# EAGLE library part XBEE2 (library Smartcrutches)
Digi XBee and XBee Pro XBees are tiny blue chips that can communicate wirelessly with each other. They can do simple things, like replacing a couple of wires in serial communication, which is nice when you want to make a remote for your paintball vehicle. SparkFun Products SparkFun XBee Buying Guide <https://www.sparkfun.com/pages/xbee_guide> SparkFun XBee Explorer USB <https://www.sparkfun.com/products/11812> (WRL-11812) Breakout Board for XBee Module <https://www.sparkfun.com/products/8276> (WRL-8276) SparkFun XBee Explorer Regulated <https://www.sparkfun.com/products/11373> (WRL-11373) SparkFun XBee Explorer Dongle <https://www.sparkfun.com/products/11697> (WRL-11697) SparkFun XBee Shield <https://www.sparkfun.com/products/12847> (WRL-12847) SparkFun XBee Explorer Serial <https://www.sparkfun.com/products/13225> (WRL-13225)
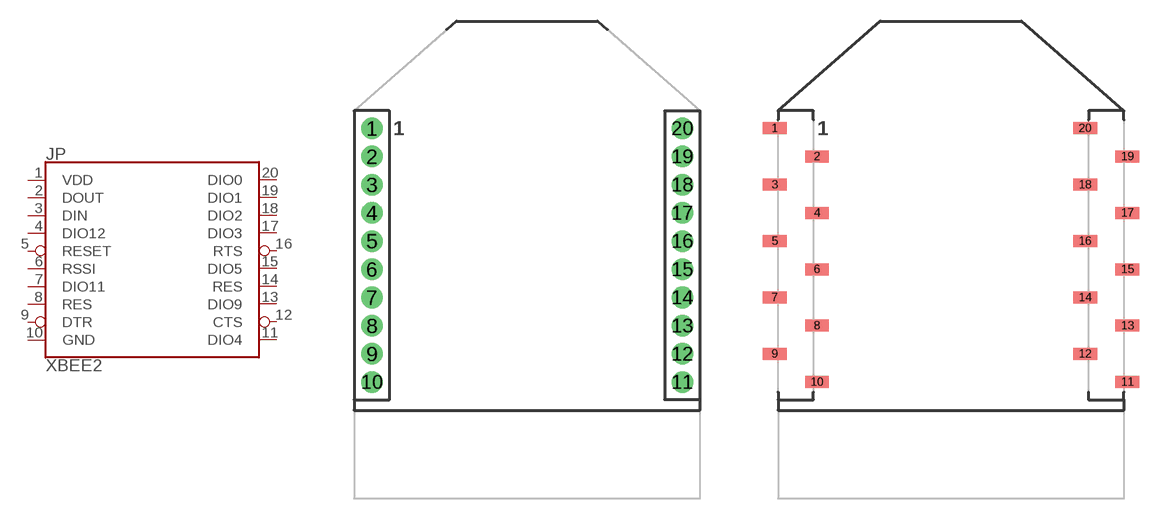
[diagram p2: symbol with the pads of XBEE-SILK; footprints XBEE-SILK, XBEE-SMD]

Designator prefix JP

## XBEE2SILK  [XBEE-SILK]
1  VDD  pwr
2  DOUT  out
3  DIN  in
4  DIO12
5  RESET  in
6  RSSI
7  DIO11
8  RES
9  DTR
10  GND  pwr
11  DIO4
12  CTS  out
13  DIO9
14  RES
15  DIO5
16  RTS  in
17  DIO3
18  DIO2
19  DIO1
20  DIO0

## XBEE2SMD (PROD_ID: CONN-09042)  [XBEE-SMD]
Pads as for XBEE-SILK

## XBEE2LONGPAD  [XBEE-LONGPAD]
Pads as for XBEE-SILK

## XBEE2LOCK  [XBEE-LOCK]
Pads as for XBEE-SILK

## XBEE2  [XBEE]
Pads as for XBEE-SILK

## Footprint XBEE-SILK (pad centres in mm)
Digi XBee and XBee-PRO RF Modules (Silkscreen Dimension Indicators) 20-pin 2mm PTH headers. Silkscreen to indicate polarity and dimensions of XBee (non-Pro's) XBee Mechanical Drawings <https://www.sparkfun.com/datasheets/Wireless/Zigbee/XBee-Dimensional.pdf> Header Mechanical Drawing <http://www.sparkfun.com/datasheets/Prototyping/XBee-Connector.pdf> Header SparkFun Product Link <https://www.sparkfun.com/products/8272>
drill 0.8 pad 1.524: 1 -11,20; 2 -11,18; 3 -11,16; 4 -11,14; 5 -11,12; 6 -11,10; 7 -11,8; 8 -11,6; 9 -11,4; 10 -11,2; 11 11,2; 12 11,4; 13 11,6; 14 11,8; 15 11,10; 16 11,12; 17 11,14; 18 11,16; 19 11,18; 20 11,20

## Footprint XBEE-SMD (pad centres in mm)
Digi XBee and XBee-PRO RF Modules (SMD pads) 20-pin 2mm SMD headers. XBee Mechanical Drawings <https://www.sparkfun.com/datasheets/Wireless/Zigbee/XBee-Dimensional.pdf> Header Mechanical Drawing <https://www.sparkfun.com/datasheets/Prototyping/Sockets/xbeeheadersmd2.pdf> Header SparkFun Product Link <https://www.sparkfun.com/products/10030>
smd 1.7 x 0.85: 1 -12.5,20; 2 -9.5,18; 3 -12.5,16; 4 -9.5,14; 5 -12.5,12; 6 -9.5,10; 7 -12.5,8; 8 -9.5,6; 9 -12.5,4; 10 -9.5,2; 11 12.5,2; 12 9.5,4; 13 12.5,6; 14 9.5,8; 15 12.5,10; 16 9.5,12; 17 12.5,14; 18 9.5,16; 19 12.5,18; 20 9.5,20

## Footprint XBEE-LONGPAD (pad centres in mm)
Digi XBee and XBee-PRO RF Modules (Long pads) 20-pin 2mm PTH headers. Elongated annular rings to make soldering easier. XBee Mechanical Drawings <https://www.sparkfun.com/datasheets/Wireless/Zigbee/XBee-Dimensional.pdf> Header Mechanical Drawing <http://www.sparkfun.com/datasheets/Prototyping/XBee-Connector.pdf> Header SparkFun Product Link <https://www.sparkfun.com/products/8272>
drill 0.8 pad 1.206 long: 1 -11,20; 2 -11,18; 3 -11,16; 4 -11,14; 5 -11,12; 6 -11,10; 7 -11,8; 8 -11,6; 9 -11,4; 10 -11,2; 11 11,2; 12 11,4; 13 11,6; 14 11,8; 15 11,10; 16 11,12; 17 11,14; 18 11,16; 19 11,18; 20 11,20

## Footprint XBEE-LOCK (pad centres in mm)
Digi XBee and XBee-PRO RF Modules (Locking footprint) 20-pin 2mm PTH headers - offset to "lock" headers in place for soldering. XBee Mechanical Drawings <https://www.sparkfun.com/datasheets/Wireless/Zigbee/XBee-Dimensional.pdf> Header Mechanical Drawing <http://www.sparkfun.com/datasheets/Prototyping/XBee-Connector.pdf> Header SparkFun Product Link <https://www.sparkfun.com/products/8272>
drill 0.737 pad 1.524: 1 -11.178,20; 2 -10.822,18; 3 -11.178,16; 4 -10.822,14; 5 -11.178,12; 6 -10.822,10; 7 -11.178,8; 8 -10.822,6; 9 -11.178,4; 10 -10.822,2; 11 11.178,2; 12 10.822,4; 13 11.178,6; 14 10.822,8; 15 11.178,10; 16 10.822,12; 17 11.178,14; 18 10.822,16; 19 11.178,18; 20 10.822,20

## Footprint XBEE (pad centres in mm)
Digi XBee and XBee-PRO RF Modules 20-pin 2mm PTH headers. XBee Mechanical Drawings <https://www.sparkfun.com/datasheets/Wireless/Zigbee/XBee-Dimensional.pdf> Header Mechanical Drawing <http://www.sparkfun.com/datasheets/Prototyping/XBee-Connector.pdf> Header SparkFun Product Link <https://www.sparkfun.com/products/8272>
drill 0.8 pad 1.524: 1 -11,20; 2 -11,18; 3 -11,16; 4 -11,14; 5 -11,12; 6 -11,10; 7 -11,8; 8 -11,6; 9 -11,4; 10 -11,2; 11 11,2; 12 11,4; 13 11,6; 14 11,8; 15 11,10; 16 11,12; 17 11,14; 18 11,16; 19 11,18; 20 11,20